# EAGLE library part W118-172DIP-7 (library my_mixed)
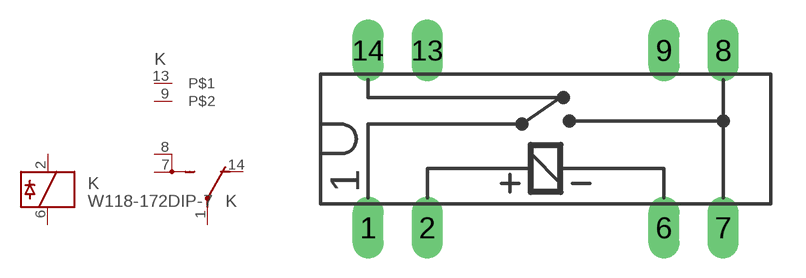
[diagram p13: symbol with the pads of RR1B; footprint RR1B]

Designator prefix K; gates G$1=K-D-DIP G$2=B1 G$3=B1NC

## W118-172DIP-7  [RR1B]
1  G$2:P  pas
2  G$1:C  pas
6  G$1:A  pas
7  G$2:S  pas
8  G$2:S  pas
9  G$3:P$2  nc
13  G$3:P$1  nc
14  G$2:O  pas

## Footprint RR1B (pad centres in mm)
drill 0.813 long: 1 -7.62,-3.81; 2 -5.08,-3.81; 6 5.08,-3.81; 7 7.62,-3.81; 8 7.62,3.81; 9 5.08,3.81; 13 -5.08,3.81; 14 -7.62,3.81